# EAGLE library part MOLEX_SL_39 (library molex-sl-connectors_jw)
Molex SL-Series PCB Header, 39-Pos, 0.1" (2.54mm) Centers
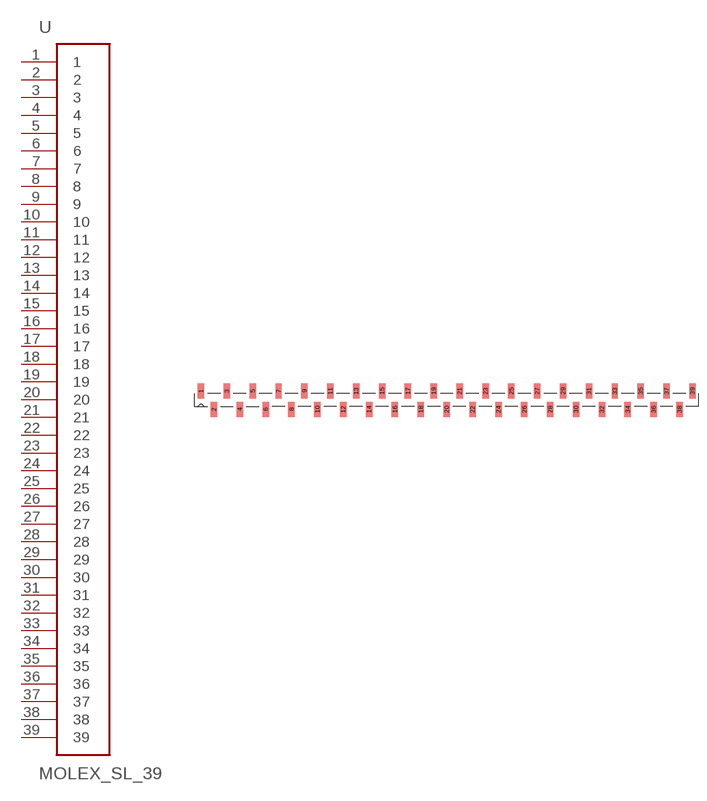
[diagram p33: symbol with the pads of SL_87898_39; footprint SL_87898_39]

Designator prefix -

## MOLEX_SL_39-87898  [SL_87898_39]
1  1
2  2
3  3
4  4
5  5
6  6
7  7
8  8
9  9
10  10
11  11
12  12
13  13
14  14
15  15
16  16
17  17
18  18
19  19
20  20
21  21
22  22
23  23
24  24
25  25
26  26
27  27
28  28
29  29
30  30
31  31
32  32
33  33
34  34
35  35
36  36
37  37
38  38
39  39

## Footprint SL_87898_39 (pad centres in mm)
SMD Vertical Header (no latch or pegs) Package also includes Pick-N-Place Cap Tube packaging w/o Pick-N-Place Cap: 87898-3921 87898-3922 87898-3924 87898-3925 87898-3926 Tube packaging w/ Pick-N-Place Cap: 87898-3931 87898-3932 87898-3934 87898-3935 87898-3936
smd 1.27 x 2.946: 1 -48.26,1.803; 2 -45.72,-1.803; 3 -43.18,1.803; 4 -40.64,-1.803; 5 -38.1,1.803; 6 -35.56,-1.803; 7 -33.02,1.803; 8 -30.48,-1.803; 9 -27.94,1.803; 10 -25.4,-1.803; 11 -22.86,1.803; 12 -20.32,-1.803; 13 -17.78,1.803; 14 -15.24,-1.803; 15 -12.7,1.803; 16 -10.16,-1.803; 17 -7.62,1.803; 18 -5.08,-1.803; 19 -2.54,1.803; 20 0,-1.803; 21 2.54,1.803; 22 5.08,-1.803; 23 7.62,1.803; 24 10.16,-1.803; 25 12.7,1.803; 26 15.24,-1.803; 27 17.78,1.803; 28 20.32,-1.803; 29 22.86,1.803; 30 25.4,-1.803; 31 27.94,1.803; 32 30.48,-1.803; 33 33.02,1.803; 34 35.56,-1.803; 35 38.1,1.803; 36 40.64,-1.803; 37 43.18,1.803; 38 45.72,-1.803; 39 48.26,1.803